# EAGLE library part M07 (library dubec)
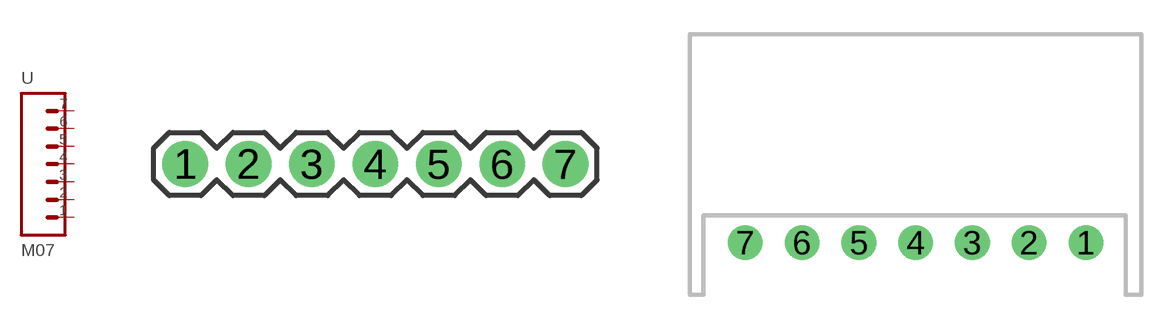
[diagram p21: symbol with the pads of 1X07; footprints 1X07, XH07-RA]

Designator prefix -

## M07  [1X07]
1  1  pas
2  2  pas
3  3  pas
4  4  pas
5  5  pas
6  6  pas
7  7  pas

## M07XHRA (DIGIKEY_PART_#: 455-2240-ND; EPK: 190.44; MANUFACTURER: JST Sales America Inc.; MFG_PART_#: S7B-XH-A(LF)(SN))  [XH07-RA]
Pads as for 1X07

## Footprint 1X07 (pad centres in mm)
drill 1 pad 1.8: 1 -7.5,0; 2 -5,0; 3 -2.5,0; 4 0,0; 5 2.5,0; 6 5,0; 7 7.5,0

## Footprint XH07-RA (pad centres in mm)
drill 1.016: 1 7.5,0; 2 5,0; 3 2.5,0; 4 0,0; 5 -2.5,0; 6 -5,0; 7 -7.5,0